# EAGLE library part TCET4100 (library rStep)
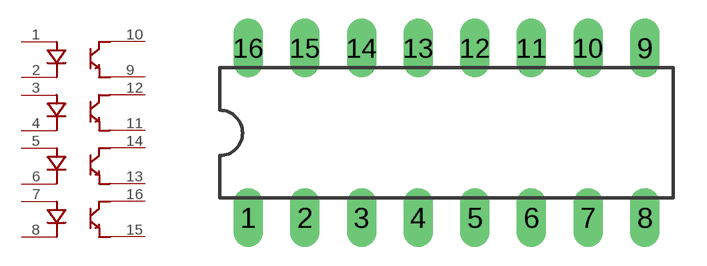
[diagram p3: symbol with the pads of DIL16; footprint DIL16]

Designator prefix -; gates G$1=OPTOISOLATOR G$2=OPTOISOLATOR G$3=OPTOISOLATOR G$4=OPTOISOLATOR

## TCET4100  [DIL16]
1  G$1:A
2  G$1:K
3  G$2:A
4  G$2:K
5  G$3:A
6  G$3:K
7  G$4:A
8  G$4:K
9  G$1:E
10  G$1:C
11  G$2:E
12  G$2:C
13  G$3:E
14  G$3:C
15  G$4:E
16  G$4:C

## Footprint DIL16 (pad centres in mm)
Dual In Line Package
drill 0.813 long: 1 -8.89,-3.81; 2 -6.35,-3.81; 3 -3.81,-3.81; 4 -1.27,-3.81; 5 1.27,-3.81; 6 3.81,-3.81; 7 6.35,-3.81; 8 8.89,-3.81; 9 8.89,3.81; 10 6.35,3.81; 11 3.81,3.81; 12 1.27,3.81; 13 -1.27,3.81; 14 -3.81,3.81; 15 -6.35,3.81; 16 -8.89,3.81